# Altium footprint library chip.PcbLib: 89 footprints (part 1 of 6)
Each footprint in its own frame and in the unit in brackets; x right, y up, seen from the top. Pads: shape width x height; smd on the part's side, far side on the other; paste and mask are expansions set on the pad; w line width, h text height; cw(c..) or ccw(c..) is an arc to the next point about the centre after c.
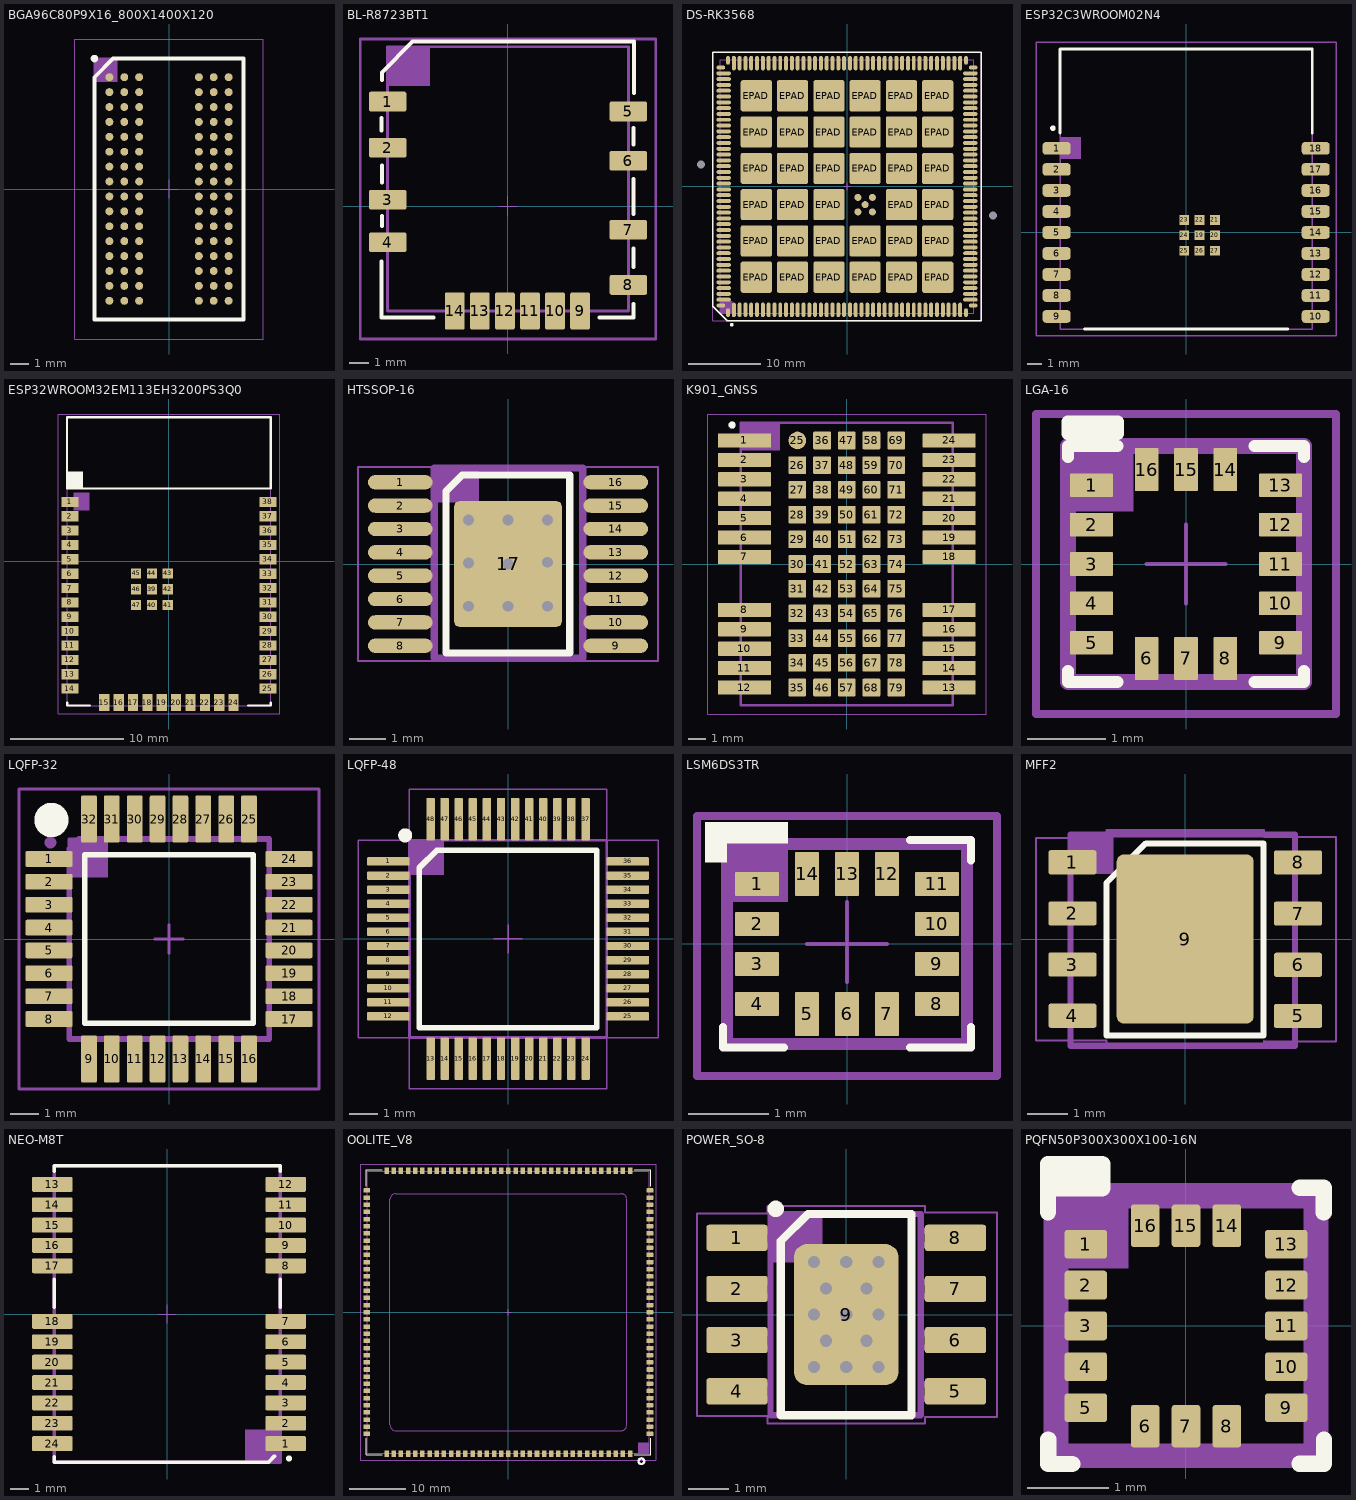
[diagram p0: the footprints below, top view; thin cyan lines are the x and y axes]

## BGA96C80P9X16_800X1400X120 [mm]
pads (96):
  round 0.426 smd: A1(-3.2,6) A2(-2.4,6) A3(-1.6,6) A7(1.6,6) A8(2.4,6) A9(3.2,6) B1(-3.2,5.2) B2(-2.4,5.2) B3(-1.6,5.2) B7(1.6,5.2) B8(2.4,5.2) B9(3.2,5.2) C1(-3.2,4.4) C2(-2.4,4.4) C3(-1.6,4.4) C7(1.6,4.4) C8(2.4,4.4) C9(3.2,4.4) D1(-3.2,3.6) D2(-2.4,3.6) D3(-1.6,3.6) D7(1.6,3.6) D8(2.4,3.6) D9(3.2,3.6) E1(-3.2,2.8) E2(-2.4,2.8) E3(-1.6,2.8) E7(1.6,2.8) E8(2.4,2.8) E9(3.2,2.8) F1(-3.2,2) F2(-2.4,2) F3(-1.6,2) F7(1.6,2) F8(2.4,2) F9(3.2,2) G1(-3.2,1.2) G2(-2.4,1.2) G3(-1.6,1.2) G7(1.6,1.2) G8(2.4,1.2) G9(3.2,1.2) H1(-3.2,0.4) H2(-2.4,0.4) H3(-1.6,0.4) H7(1.6,0.4) H8(2.4,0.4) H9(3.2,0.4) J1(-3.2,-0.4) J2(-2.4,-0.4) J3(-1.6,-0.4) J7(1.6,-0.4) J8(2.4,-0.4) J9(3.2,-0.4) K1(-3.2,-1.2) K2(-2.4,-1.2) K3(-1.6,-1.2) K7(1.6,-1.2) K8(2.4,-1.2) K9(3.2,-1.2) L1(-3.2,-2) L2(-2.4,-2) L3(-1.6,-2) L7(1.6,-2) L8(2.4,-2) L9(3.2,-2) M1(-3.2,-2.8) M2(-2.4,-2.8) M3(-1.6,-2.8) M7(1.6,-2.8) M8(2.4,-2.8) M9(3.2,-2.8) N1(-3.2,-3.6) N2(-2.4,-3.6) N3(-1.6,-3.6) N7(1.6,-3.6) N8(2.4,-3.6) N9(3.2,-3.6) P1(-3.2,-4.4) P2(-2.4,-4.4) P3(-1.6,-4.4) P7(1.6,-4.4) P8(2.4,-4.4) P9(3.2,-4.4) R1(-3.2,-5.2) R2(-2.4,-5.2) R3(-1.6,-5.2) R7(1.6,-5.2) R8(2.4,-5.2) R9(3.2,-5.2) T1(-3.2,-6) T2(-2.4,-6) T3(-1.6,-6) T7(1.6,-6) T8(2.4,-6) T9(3.2,-6)
Top Overlay:
  circle w0.2: c-4,7 r0.1
  lines w0.2: -4,-7 -4,6 -3,7 4,7 4,-7 -4,-7
Top Designator:
  text ".Designator" at -2.849,7.425 h0.6
Top Assembly:
  rectangle: -3.947,5.74 -2.765,6.988
  lines w0.1: -4,-7 4,-7 4,7 -4,7 -4,-7
Top Courtyard:
  lines w0.05: -0.5,0 0.5,0 ; 0,-0.5 0,0.5 ; -5.05,-8.05 -5.05,8.05 5.05,8.05 5.05,-8.05 -5.05,-8.05
3D body "MT41K256M16TW-107_IT_P.stp": height 1.2, standoff 0, extent -4,-7 4,7

## BL-R8723BT1 [mm]
pads (14):
  rrect20% 1.9x1 smd: 1(-6.1,5.31) 2(-6.1,2.973) 3(-6.1,0.333) 4(-6.1,-1.826) 5(6.1,4.811) 6(6.1,2.311) 7(6.1,-1.189) 8(6.1,-3.99)
  rrect20% 1x1.9 smd: 9(3.654,-5.31) 10(2.384,-5.31) 11(1.114,-5.31) 12(-0.156,-5.31) 13(-1.426,-5.31) 14(-2.696,-5.31)
Top Overlay:
  lines w0.2: -6.426,-5.639 -6.426,-2.794 ; -6.426,3.835 -6.426,4.47 ; -6.401,-5.639 -3.785,-5.639 ; -6.401,-0.991 -6.401,-0.483 ; -6.401,1.194 -6.401,2.057 ; -6.401,6.401 -6.401,6.79 -4.834,8.357 6.401,8.357 6.401,5.74 ; 4.648,-5.639 6.35,-5.639 ; 6.375,-5.639 6.375,-4.953 ; 6.375,-3.073 6.375,-2.134 ; 6.375,-0.381 6.375,1.397 ; 6.375,3.124 6.375,3.962
Top Designator:
  text ".Designator" at -3.685,9.122 h0.6
Top Assembly:
  rectangle: -6.1,6.09 -3.955,8.09
  lines w0.15: -6.1,-5.31 -6.1,8.09 6.1,8.09 6.1,-5.31 -6.1,-5.31
Top Courtyard:
  lines w0.05: -0.5,0 0,0 ; 0,-0.5 0,0 ; 0,0.5 0,0 ; 0.5,0 0,0
  lines w0.15: -7.493,-6.731 7.493,-6.731 7.493,8.484 -7.493,8.484 -7.493,-6.731
3D body "User Library-BL-R8723BT1 module.STEP": height 1.1, standoff 0, extent -5.867,-5.252 6.133,8.148

## DS-RK3568 [mm]
pads (210):
  oval 0.55x2 smd: 1(-15.6,-17) 2(-14.8,-17) 3(-14,-17) 4(-13.2,-17) 5(-12.4,-17) 6(-11.6,-17) 7(-10.8,-17) 8(-10,-17) 9(-9.2,-17) 10(-8.4,-17) 11(-7.6,-17) 12(-6.8,-17) 13(-6,-17) 14(-5.2,-17) 15(-4.4,-17) 16(-3.6,-17) 17(-2.8,-17) 18(-2,-17) 19(-1.2,-17) 20(-0.4,-17) 21(0.4,-17) 22(1.2,-17) 23(2,-17) 24(2.8,-17) 25(3.6,-17) 26(4.4,-17) 27(5.2,-17) 28(6,-17) 29(6.8,-17) 30(7.6,-17) 31(8.4,-17) 32(9.2,-17) 33(10,-17) 34(10.8,-17) 35(11.6,-17) 36(12.4,-17) 37(13.2,-17) 38(14,-17) 39(14.8,-17) 40(15.6,-17) 81(15.6,17) 82(14.8,17) 83(14,17) 84(13.2,17) 85(12.4,17) 86(11.6,17) 87(10.8,17) 88(10,17) 89(9.2,17) 90(8.4,17) 91(7.6,17) 92(6.8,17) 93(6,17) 94(5.2,17) 95(4.4,17) 96(3.6,17) 97(2.8,17) 98(2,17) 99(1.2,17) 100(0.4,17) 101(-0.4,17) 102(-1.2,17) 103(-2,17) 104(-2.8,17) 105(-3.6,17) 106(-4.4,17) 107(-5.2,17) 108(-6,17) 109(-6.8,17) 110(-7.6,17) 111(-8.4,17) 112(-9.2,17) 113(-10,17) 114(-10.8,17) 115(-11.6,17) 116(-12.4,17) 117(-13.2,17) 118(-14,17) 119(-14.8,17) 120(-15.6,17)
  oval 0.55x1.2 smd: 1A(-16.4,-17.4) 40A(16.4,-17.4) 81A(16.4,17.4) 120A(-16.4,17.4)
  oval 2x0.55 smd: 41(17,-15.6) 42(17,-14.8) 43(17,-14) 44(17,-13.2) 45(17,-12.4) 46(17,-11.6) 47(17,-10.8) 48(17,-10) 49(17,-9.2) 50(17,-8.4) 51(17,-7.6) 52(17,-6.8) 53(17,-6) 54(17,-5.2) 55(17,-4.4) 56(17,-3.6) 57(17,-2.8) 58(17,-2) 59(17,-1.2) 60(17,-0.4) 61(17,0.4) 62(17,1.2) 63(17,2) 64(17,2.8) 65(17,3.6) 66(17,4.4) 67(17,5.2) 68(17,6) 69(17,6.8) 70(17,7.6) 71(17,8.4) 72(17,9.2) 73(17,10) 74(17,10.8) 75(17,11.6) 76(17,12.4) 77(17,13.2) 78(17,14) 79(17,14.8) 80(17,15.6) 121(-17,15.6) 122(-17,14.8) 123(-17,14) 124(-17,13.2) 125(-17,12.4) 126(-17,11.6) 127(-17,10.8) 128(-17,10) 129(-17,9.2) 130(-17,8.4) 131(-17,7.6) 132(-17,6.8) 133(-17,6) 134(-17,5.2) 135(-17,4.4) 136(-17,3.6) 137(-17,2.8) 138(-17,2) 139(-17,1.2) 140(-17,0.4) 141(-17,-0.4) 142(-17,-1.2) 143(-17,-2) 144(-17,-2.8) 145(-17,-3.6) 146(-17,-4.4) 147(-17,-5.2) 148(-17,-6) 149(-17,-6.8) 150(-17,-7.6) 151(-17,-8.4) 152(-17,-9.2) 153(-17,-10) 154(-17,-10.8) 155(-17,-11.6) 156(-17,-12.4) 157(-17,-13.2) 158(-17,-14) 159(-17,-14.8) 160(-17,-15.6)
  oval 1.2x0.55 smd: 41A(17.4,-16.4) 80A(17.4,16.4) 121A(-17.4,16.4) 160A(-17.4,-16.4)
  round 0.97 smd: A1(1.5,-3.5) A3(3.5,-3.5) B2(2.5,-2.5) C1(1.5,-1.5) C3(3.5,-1.5)
  rrect12% 4.3x4.3 smd paste-2539.97: EPAD(-12.5,-12.5) EPAD(-12.5,-7.5) EPAD(-12.5,-2.5) EPAD(-12.5,2.5) EPAD(-12.5,7.5) EPAD(-12.5,12.5) EPAD(-7.5,-12.5) EPAD(-7.5,-7.5) EPAD(-7.5,-2.5) EPAD(-7.5,2.5) EPAD(-7.5,7.5) EPAD(-7.5,12.5) EPAD(-2.5,-12.5) EPAD(-2.5,-7.5) EPAD(-2.5,-2.5) EPAD(-2.5,2.5) EPAD(-2.5,7.5) EPAD(-2.5,12.5) EPAD(2.5,-12.5) EPAD(2.5,-7.5) EPAD(2.5,2.5) EPAD(2.5,7.5) EPAD(2.5,12.5) EPAD(7.5,-12.5) EPAD(7.5,-7.5) EPAD(7.5,-2.5) EPAD(7.5,2.5) EPAD(7.5,7.5) EPAD(7.5,12.5) EPAD(12.5,-12.5) EPAD(12.5,-7.5) EPAD(12.5,-2.5) EPAD(12.5,2.5) EPAD(12.5,7.5) EPAD(12.5,12.5)
  round 0 hole 1.1 unplated: H1(-20.125,3) H2(20.125,-4)
Top Overlay:
  circle w0.25: c-15.886,-19.065 r0.125
  lines w0.2: -18.5,17.7 -18.5,17.7 ; -18.5,17.7 -18.5,-16.5 -16.5,-18.5 18.5,-18.5 18.5,18.5 -18.5,18.5 -18.5,17.7
Top Paste:
  drawing of 175 lines, arcs and shapes, not listed
Top Designator:
  text ".Designator" at -16.999,19.3 h0.6
Top Assembly:
  rectangle: -17.457,-17.465 -15.75,-15.75
  lines w0.15: -17.5,-17.5 -17.5,17.5 17.5,17.5 17.5,-17.5 -17.5,-17.5
Top Courtyard:
  lines w0.05: -0.5,0 0.5,0 ; 0,-0.5 0,0.5 ; -18.5,17.7 -18.5,17.7 ; -18.5,17.7 -18.5,18.5 18.5,18.5 18.5,-18.5 -18.5,-18.5 -18.5,17.7
3D body "mg-rk3568-3535_ver1_STEP.stp": height 3.42, standoff 0.01, extent -17.5,-17.5 17.5,17.5

## ESP32C3WROOM02N4 [mm]
pads (27):
  rrect50% 2x0.9 smd: 1(-9.25,6) 2(-9.25,4.5) 3(-9.25,3) 4(-9.25,1.5) 5(-9.25,0) 6(-9.25,-1.5) 7(-9.25,-3) 8(-9.25,-4.5) 9(-9.25,-6) 10(9.25,-6) 11(9.25,-4.5) 12(9.25,-3) 13(9.25,-1.5) 14(9.25,0) 15(9.25,1.5) 16(9.25,3) 17(9.25,4.5) 18(9.25,6)
  rect 0.7x0.7 smd: 19(0.96,-0.2) 20(2.06,-0.2) 21(2.06,0.9) 22(0.96,0.9) 23(-0.14,0.9) 24(-0.14,-0.2) 25(-0.14,-1.3) 26(0.96,-1.3) 27(2.06,-1.3)
Top Overlay:
  lines w0.2: -9.615,7.45 ccw(c-9.515,7.45) -9.415,7.45 ; -9.615,7.45 cw(c-9.515,7.45) -9.415,7.45 ; -9.615,7.45 ccw(c-9.515,7.45) -9.415,7.45 ; -9,13.1 9,13.1 ; -9,13.1 9,13.1 ; -9,13.1 -9,7.1 -9,13.1 ; 9,13.1 9,7.1 9,13.1 ; -7.25,-6.9 7.25,-6.9 -7.25,-6.9
Top Assembly:
  rectangle: -8.952,5.25 -7.525,6.825
  lines w0.1: -9,-6.9 9,-6.9 9,13.1 -9,13.1 -9,-6.9
Top Courtyard:
  lines w0.1: -10.724,-7.393 -10.724,13.6 10.703,13.6 10.703,-7.393 -10.724,-7.393
3D body "ESP32-C3-WROOM-02-N4.stp": height 3.2, standoff 0, extent -9,-6.9 9,13.1

## ESP32WROOM32EM113EH3200PS3Q0 [mm] "ESP32-WROOM-32E"
height 3.25
pads (47):
  rect 1.5x0.9 smd: 1(-8.75,5.26) 2(-8.75,3.99) 3(-8.75,2.72) 4(-8.75,1.45) 5(-8.75,0.18) 6(-8.75,-1.09) 7(-8.75,-2.36) 8(-8.75,-3.63) 9(-8.75,-4.9) 10(-8.75,-6.17) 11(-8.75,-7.44) 12(-8.75,-8.71) 13(-8.75,-9.98) 14(-8.75,-11.25) 25(8.75,-11.25) 26(8.75,-9.98) 27(8.75,-8.71) 28(8.75,-7.44) 29(8.75,-6.17) 30(8.75,-4.9) 31(8.75,-3.63) 32(8.75,-2.36) 33(8.75,-1.09) 34(8.75,0.18) 35(8.75,1.45) 36(8.75,2.72) 37(8.75,3.99) 38(8.75,5.26)
  rect 0.9x1.5 smd: 15(-5.71,-12.5) 16(-4.44,-12.5) 17(-3.17,-12.5) 18(-1.9,-12.5) 19(-0.63,-12.5) 20(0.64,-12.5) 21(1.91,-12.5) 22(3.18,-12.5) 23(4.45,-12.5) 24(5.72,-12.5)
  rect 0.9x0.9 smd: 39(-1.5,-2.46) 40(-1.5,-3.86) 41(-0.1,-3.86) 42(-0.1,-2.46) 43(-0.1,-1.06) 44(-1.5,-1.06) 45(-2.9,-1.06) 46(-2.9,-2.46) 47(-2.9,-3.86)
Top Overlay:
  rectangle: -9.007,6.452 -7.605,7.928
  lines w0.2: -9.004,12.732 -9.004,6.452 9,6.452 9,12.75 -9,12.75 ; -9,-12.5 -9,-12.75 -7,-12.75 ; 7,-12.75 9,-12.75 9,-12.5
Top Assembly:
  rectangle: -8.452,4.51 -7.025,6.085
Top Courtyard:
  lines w0.1: -9,-12.75 9,-12.75 9,12.75 -9,12.75 -9,-12.75
Mechanical 20:
  lines w0.1: -9.781,-13.498 9.8,-13.498 9.8,13.032 -9.781,13.032 -9.781,-13.498
3D body "ESP32-WROOM-32E 3D Model.STEP": height 3.12, standoff 0.02, extent -9.005,-12.753 8.995,12.747

## HTSSOP-16 [mm]
pads (26):
  oval 1.8x0.4 smd paste-25.4: 1(-3,2.275) 2(-3,1.625) 3(-3,0.975) 4(-3,0.325) 5(-3,-0.325) 6(-3,-0.975) 7(-3,-1.625) 8(-3,-2.275) 9(3,-2.275) 10(3,-1.625) 11(3,-0.975) 12(3,-0.325) 13(3,0.325) 14(3,0.975) 15(3,1.625) 16(3,2.275)
  rrect10% 3x3.5 smd paste-25.4: 17(0,0)
  round 0.7 hole 0.3 paste-2539.97: unused1(0,0) unused2(1.1,0.05) unused3(-1.1,0.025) unused4(0,1.225) unused5(0,-1.175) unused6(1.1,-1.175) unused7(-1.1,-1.175) unused8(-1.1,1.225) unused9(1.1,1.225)
Top Overlay:
  lines w0.2: -1.725,-2.475 1.719,-2.475 1.719,2.475 -1.275,2.475 -1.725,2.025 -1.725,-2.475
Top Paste:
  drawing of 16 lines, arcs and shapes, not listed
Top Designator:
  text ".Designator" at -3.149,3.075 h0.6
Top Assembly:
  rectangle: -2.053,1.715 -0.805,2.67
  lines w0.2: -2.053,-2.619 -2.053,2.67 2.082,2.67 2.082,-2.619 -2.053,-2.619
  lines w0.3: -3.064,-2.275 -2.138,-2.275 ; -3.064,-1.625 -2.138,-1.625 ; -3.064,-0.975 -2.138,-0.975 ; -3.064,-0.325 -2.138,-0.325 ; -3.064,0.325 -2.138,0.325 ; -3.064,0.975 -2.138,0.975 ; -3.064,1.625 -2.138,1.625 ; -3.064,2.275 -2.138,2.275 ; 2.138,-2.275 3.064,-2.275 ; 2.138,-1.625 3.064,-1.625 ; 2.138,-0.975 3.064,-0.975 ; 2.138,-0.325 3.064,-0.325 ; 2.138,0.325 3.064,0.325 ; 2.138,0.975 3.064,0.975 ; 2.138,1.625 3.064,1.625 ; 2.138,2.275 3.064,2.275
Top Courtyard:
  lines w0.05: -0.5,0 0.5,0 ; 0,-0.5 0,0.5 ; -4.175,-2.7 -4.175,2.7 -1.952,2.7 1.952,2.7 4.175,2.7 4.175,-2.703 1.952,-2.7 -1.952,-2.7 -4.175,-2.7
3D body "HTSSOP-16-EP.STEP": height -0.45, standoff -1.75, extent -3.207,-2.5 3.206,2.5

## K901_GNSS [mm]
height 2.7
pads (79):
  rrect10% 3x0.8 smd: 1(-5.8,7) 2(-5.8,5.9) 3(-5.8,4.8) 4(-5.8,3.7) 5(-5.8,2.6) 6(-5.8,1.5) 7(-5.8,0.4) 8(-5.8,-2.6) 9(-5.8,-3.7) 10(-5.8,-4.8) 11(-5.8,-5.9) 12(-5.8,-7) 13(5.8,-7) 14(5.8,-5.9) 15(5.8,-4.8) 16(5.8,-3.7) 17(5.8,-2.6) 18(5.8,0.4) 19(5.8,1.5) 20(5.8,2.6) 21(5.8,3.7) 22(5.8,4.8) 23(5.8,5.9) 24(5.8,7)
  round 1 smd: 25(-2.8,7)
  rrect10% 1x1 smd: 26(-2.8,5.6) 27(-2.8,4.2) 28(-2.8,2.8) 29(-2.8,1.4) 30(-2.8,0) 31(-2.8,-1.4) 32(-2.8,-2.8) 33(-2.8,-4.2) 34(-2.8,-5.6) 35(-2.8,-7) 36(-1.4,7) 37(-1.4,5.6) 38(-1.4,4.2) 39(-1.4,2.8) 40(-1.4,1.4) 41(-1.4,0) 42(-1.4,-1.4) 43(-1.4,-2.8) 44(-1.4,-4.2) 45(-1.4,-5.6) 46(-1.4,-7) 47(0,7) 48(0,5.6) 49(0,4.2) 50(0,2.8) 51(0,1.4) 52(0,0) 53(0,-1.4) 54(0,-2.8) 55(0,-4.2) 56(0,-5.6) 57(0,-7) 58(1.4,7) 59(1.4,5.6) 60(1.4,4.2) 61(1.4,2.8) 62(1.4,1.4) 63(1.4,0) 64(1.4,-1.4) 65(1.4,-2.8) 66(1.4,-4.2) 67(1.4,-5.6) 68(1.4,-7) 69(2.8,7) 70(2.8,5.6) 71(2.8,4.2) 72(2.8,2.8) 73(2.8,1.4) 74(2.8,0) 75(2.8,-1.4) 76(2.8,-2.8) 77(2.8,-4.2) 78(2.8,-5.6) 79(2.8,-7)
Top Overlay:
  circle w0.2: c-6.5,7.875 r0.1
Top Designator:
  text ".Designator" at -3.799,9.1 h0.6
Top Assembly:
  circle w0.2: c-6.5,7.875 r0.1
  rectangle: -6,6.44 -3.78,8
  lines w0.15: -6,-8 6,-8 6,8 -6,8 -6,-8
Top Courtyard:
  lines w0.05: -0.5,-0.025 0.5,-0.025 ; 0,-0.525 0,0.475 ; -7.875,-8.5 7.9,-8.5 7.9,8.5 -7.875,8.5 -7.875,-8.5
3D body "step_temp.STEP": height 2.5, standoff 0, extent -6.1,-8 6.1,8

## LGA-16 [mm]
pads (16):
  rrect10% 0.55x0.3 smd: 1(-1.2,1) 2(-1.2,0.5) 3(-1.2,0) 4(-1.2,-0.5) 5(-1.2,-1) 9(1.2,-1) 10(1.2,-0.5) 11(1.2,0) 12(1.2,0.5) 13(1.2,1)
  rrect10% 0.3x0.55 smd: 6(-0.5,-1.2) 7(0,-1.2) 8(0.5,-1.2) 14(0.5,1.2) 15(0,1.2) 16(-0.5,1.2)
Top Overlay:
  lines w0.15: -1.5,-1.355 -1.5,-1.5 -0.868,-1.5 ; -1.5,1.355 -1.5,1.5 -0.868,1.5 ; 0.868,-1.5 1.5,-1.5 1.5,-1.355 ; 0.868,1.5 1.5,1.5 1.5,1.355
  lines w0.16: -1.5,1.652 -0.868,1.652 ; -1.5,1.66 -1.5,1.805 -0.868,1.805 ; -0.865,1.66 -0.865,1.805
Top Designator:
  text ".Designator" at -2.897,2.238 h0.6
Top Assembly:
  rectangle: -1.5,0.665 -0.665,1.427
  lines w0.2: -1.5,-1.5 1.5,-1.5 1.5,1.5 -1.5,1.5 -1.5,-1.5
Top Courtyard:
  lines w0.05: -0.5,0 0,0 ; 0,-0.5 0,0 ; 0,0.5 0,0 ; 0.5,0 0,0
  lines w0.1: -1.905,-1.905 1.905,-1.905 1.905,1.905 -1.905,1.905 -1.905,-1.905
3D body "LIS3DH.stp": height 1, standoff 0, extent -1.5,-1.5 1.5,1.5

## LQFP-32 [mm] "Thin QFP, 32-Leads, Body 7x7mm, Pitch 0.8mm, IPC Medium Density"
height 1.6
pads (32):
  rrect20% 1.65x0.55 smd: 1(-4.2,2.8) 2(-4.2,2) 3(-4.2,1.2) 4(-4.2,0.4) 5(-4.2,-0.4) 6(-4.2,-1.2) 7(-4.2,-2) 8(-4.2,-2.8) 17(4.2,-2.8) 18(4.2,-2) 19(4.2,-1.2) 20(4.2,-0.4) 21(4.2,0.4) 22(4.2,1.2) 23(4.2,2) 24(4.2,2.8)
  rrect20% 0.55x1.65 smd: 9(-2.8,-4.2) 10(-2,-4.2) 11(-1.2,-4.2) 12(-0.4,-4.2) 13(0.4,-4.2) 14(1.2,-4.2) 15(2,-4.2) 16(2.8,-4.2) 25(2.8,4.2) 26(2,4.2) 27(1.2,4.2) 28(0.4,4.2) 29(-0.4,4.2) 30(-1.2,4.2) 31(-2,4.2) 32(-2.8,4.2)
Top Overlay:
  circle w0.6: c-4.115,4.166 r0.3
  lines w0.2: -2.95,-2.95 -2.95,2.95 2.95,2.95 2.95,-2.95 -2.95,-2.95
Sheet:
  lines w0.05: -5.25,-5.25 5.25,-5.25 5.25,5.25 -5.25,5.25 -5.25,-5.25
  text ".Designator" at -2.25,-0.25 h1.5
Bottom Dimensions:
  circle w0.2: c-4.15,3.375 r0.106
  lines w0.2: -4.5,-2.95 -4.5,-2.65 -3.5,-2.65 -3.5,-2.95 -4.5,-2.95 ; -4.5,-2.15 -4.5,-1.85 -3.5,-1.85 -3.5,-2.15 -4.5,-2.15 ; -4.5,-1.35 -4.5,-1.05 -3.5,-1.05 -3.5,-1.35 -4.5,-1.35 ; -4.5,-0.55 -4.5,-0.25 -3.5,-0.25 -3.5,-0.55 -4.5,-0.55 ; -4.5,0.256 -4.5,0.556 -3.5,0.556 -3.5,0.256 -4.5,0.256 ; -4.5,1.05 -4.5,1.35 -3.5,1.35 -3.5,1.05 -4.5,1.05 ; -4.5,1.85 -4.5,2.15 -3.5,2.15 -3.5,1.85 -4.5,1.85 ; -4.5,2.65 -4.5,2.95 -3.5,2.95 -3.5,2.65 -4.5,2.65 ; -3.488,-3.497 -3.488,3.162 -3.147,3.503 3.512,3.503 3.512,-3.497 -3.488,-3.497 ; -2.944,3.5 -2.644,3.5 -2.644,4.5 -2.944,4.5 -2.944,3.5 ; -2.942,-4.498 -2.642,-4.498 -2.642,-3.498 -2.942,-3.498 -2.942,-4.498 ; -2.15,3.5 -1.85,3.5 -1.85,4.5 -2.15,4.5 -2.15,3.5 ; -2.142,-4.498 -1.842,-4.498 -1.842,-3.498 -2.142,-3.498 -2.142,-4.498 ; -1.35,3.5 -1.05,3.5 -1.05,4.5 -1.35,4.5 -1.35,3.5 ; -1.342,-4.498 -1.042,-4.498 -1.042,-3.498 -1.342,-3.498 -1.342,-4.498 ; -0.548,-4.498 -0.248,-4.498 -0.248,-3.498 -0.548,-3.498 -0.548,-4.498 ; -0.546,3.501 -0.246,3.501 -0.246,4.501 -0.546,4.501 -0.546,3.501 ; 0.243,3.5 0.543,3.5 0.543,4.5 0.243,4.5 0.243,3.5 ; 0.258,-4.498 0.558,-4.498 0.558,-3.498 0.258,-3.498 0.258,-4.498 ; 1.05,3.5 1.35,3.5 1.35,4.5 1.05,4.5 1.05,3.5 ; 1.058,-4.498 1.358,-4.498 1.358,-3.498 1.058,-3.498 1.058,-4.498 ; 1.854,3.5 2.154,3.5 2.154,4.5 1.854,4.5 1.854,3.5 ; 1.858,-4.498 2.158,-4.498 2.158,-3.498 1.858,-3.498 1.858,-4.498 ; 2.65,-4.5 2.95,-4.5 2.95,-3.5 2.65,-3.5 2.65,-4.5 ; 2.668,3.503 2.968,3.503 2.968,4.503 2.668,4.503 2.668,3.503 ; 3.517,-2.951 3.517,-2.651 4.517,-2.651 4.517,-2.951 3.517,-2.951 ; 3.517,-2.151 3.517,-1.851 4.517,-1.851 4.517,-2.151 3.517,-2.151 ; 3.517,-1.351 3.517,-1.051 4.517,-1.051 4.517,-1.351 3.517,-1.351 ; 3.517,-0.557 3.517,-0.257 4.517,-0.257 4.517,-0.557 3.517,-0.557 ; 3.517,0.249 3.517,0.549 4.517,0.549 4.517,0.249 3.517,0.249 ; 3.517,1.049 3.517,1.349 4.517,1.349 4.517,1.049 3.517,1.049 ; 3.517,1.849 3.517,2.149 4.517,2.149 4.517,1.849 3.517,1.849 ; 3.525,2.65 3.525,2.95 4.525,2.95 4.525,2.65 3.525,2.65
  text ".Designator" at -2.175,5.075 h1
Top Assembly:
  rectangle: -3.538,2.149 -2.138,3.529
  lines w0.1: -3.5,-3.5 -3.5,3.5 3.5,3.5 3.5,-3.5 -3.5,-3.5
Top Courtyard:
  lines w0.1: -0.5,0 0.5,0 ; 0,-0.5 0,0.5 ; -5.25,-5.25 -5.25,5.25 5.25,5.25 5.25,-5.25 -5.25,-5.25
3D body "LQFP32_FPT-32P-M21.stp": height 1.5, standoff 0, extent -4.5,-4.5 4.5,4.5

## LQFP-48 [mm] "QFP50P900X900X160-48N"
height 1.6
pads (48):
  rrect20% 1.5x0.3 smd: 1(-4.25,2.75) 2(-4.25,2.25) 3(-4.25,1.75) 4(-4.25,1.25) 5(-4.25,0.75) 6(-4.25,0.25) 7(-4.25,-0.25) 8(-4.25,-0.75) 9(-4.25,-1.25) 10(-4.25,-1.75) 11(-4.25,-2.25) 12(-4.25,-2.75) 25(4.25,-2.75) 26(4.25,-2.25) 27(4.25,-1.75) 28(4.25,-1.25) 29(4.25,-0.75) 30(4.25,-0.25) 31(4.25,0.25) 32(4.25,0.75) 33(4.25,1.25) 34(4.25,1.75) 35(4.25,2.25) 36(4.25,2.75)
  rrect20% 0.3x1.5 smd: 13(-2.75,-4.25) 14(-2.25,-4.25) 15(-1.75,-4.25) 16(-1.25,-4.25) 17(-0.75,-4.25) 18(-0.25,-4.25) 19(0.25,-4.25) 20(0.75,-4.25) 21(1.25,-4.25) 22(1.75,-4.25) 23(2.25,-4.25) 24(2.75,-4.25) 37(2.75,4.25) 38(2.25,4.25) 39(1.75,4.25) 40(1.25,4.25) 41(0.75,4.25) 42(0.25,4.25) 43(-0.25,4.25) 44(-0.75,4.25) 45(-1.25,4.25) 46(-1.75,4.25) 47(-2.25,4.25) 48(-2.75,4.25)
Top Overlay:
  circle w0.25: c-3.65,3.675 r0.125
  lines w0.2: -3.15,-3.15 3.15,-3.15 3.15,3.15 -2.525,3.15 -3.15,2.525 -3.15,-3.15
Top Designator:
  text ".Designator" at -3.199,5.5 h0.6
Top Assembly:
  rectangle: -3.5,2.275 -2.275,3.5
  lines w0.1: -3.5,-3.5 3.5,-3.5 3.5,3.5 -3.5,3.5 -3.5,-3.5
Top Courtyard:
  lines w0.05: -0.5,0 0.5,0 ; 0,-0.5 0,0.5 ; -5.325,-3.5 -3.5,-3.5 -3.5,-5.325 3.5,-5.325 3.5,-3.5 5.322,-3.5 5.322,3.5 3.5,3.5 3.5,5.321 -3.5,5.321 -3.5,3.5 -5.325,3.5 -5.325,-3.5
3D body "IP101GA.stp": height 1.6, standoff 0, extent -4.5,-4.5 4.5,4.5

## LSM6DS3TR [mm]
pads (14):
  rrect10% 0.55x0.3 smd: 1(-1.125,0.75) 2(-1.125,0.25) 3(-1.125,-0.25) 4(-1.125,-0.75) 8(1.125,-0.75) 9(1.125,-0.25) 10(1.125,0.25) 11(1.125,0.75)
  rrect10% 0.3x0.55 smd: 5(-0.5,-0.875) 6(0,-0.875) 7(0.5,-0.875) 12(0.5,0.875) 13(0,0.875) 14(-0.5,0.875)
Top Overlay:
  rectangle: -1.778,1.016 -1.501,1.524
  region: -0.739,1.256 -0.739,1.524 -1.501,1.524 -1.501,1.256
  lines w0.1: -1.549,-1.041 -1.549,-1.295 -0.787,-1.295 ; 0.787,-1.295 1.549,-1.295 1.549,-1.041 ; 0.787,1.295 1.549,1.295 1.549,1.041
Top Designator:
  text ".Designator" at -2.849,2.075 h0.6
Top Assembly:
  rectangle: -1.5,0.525 -0.735,1.25
  lines w0.15: -1.5,-1.25 -1.5,1.25 1.5,1.25 1.5,-1.25 -1.5,-1.25
Top Courtyard:
  lines w0.05: -0.5,0 0.5,0 ; 0,-0.475 0,0.525
  lines w0.1: -1.875,-1.65 1.875,-1.65 1.875,1.6 -1.875,1.6 -1.875,-1.65
3D body "LSM6DS3TR.stp": height 0.86, standoff 0, extent -1.5,-1.25 1.5,1.25

## MFF2 [mm]
pads (9):
  rrect20% 1.2x0.6 smd: 1(-2.8,1.905) 2(-2.8,0.635) 3(-2.8,-0.635) 4(-2.8,-1.905) 5(2.8,-1.91) 6(2.8,-0.64) 7(2.8,0.63) 8(2.8,1.9)
  rrect10% 3.4x4.2 smd: 9(0,0)
Top Overlay:
  lines w0.15: -1.959,-2.4 1.944,-2.4 1.944,2.375 -0.975,2.375 -1.959,1.391 -1.959,-2.4
Top Designator:
  text ".Designator" at -3.149,3.075 h0.6
Top Assembly:
  rectangle: -2.85,1.61 -1.785,2.6
  lines w0.15: -2.85,-2.105 -3.057,-2.105 -3.057,-1.705 -2.85,-1.705 ; -2.85,-0.835 -3.057,-0.835 -3.057,-0.435 -2.85,-0.435 ; -2.85,0.435 -3.057,0.435 -3.057,0.835 -2.85,0.835 ; -2.85,1.705 -3.057,1.705 -3.057,2.105 -2.85,2.105 ; 2.75,-2.11 2.957,-2.11 2.957,-1.71 2.75,-1.71 ; 2.75,-0.84 2.957,-0.84 2.957,-0.44 2.75,-0.44 ; 2.75,0.43 2.957,0.43 2.957,0.83 2.75,0.83 ; 2.75,1.7 2.957,1.7 2.957,2.1 2.75,2.1 ; -2.85,2.105 -2.85,-2.65 -1.456,-2.65 1.331,-2.65 2.725,-2.65 2.725,2.6 -2.85,2.6 -2.85,2.105
Top Courtyard:
  lines w0.05: -0.5,0 0.5,0 ; 0,-0.5 0,0.5 ; -3.705,-2.522 -3.705,2.507 -1.952,2.505 -1.952,2.7 1.952,2.7 1.952,2.529 3.743,2.532 3.743,-2.541 1.952,-2.539 1.952,-2.7 -1.952,-2.7 -1.952,-2.519 -3.705,-2.522
3D body "User Library-MFF2_5x6x1mm.STEP": height 0.95, standoff 0, extent -3,-2.525 3.1,2.475

## NEO-M8T [mm]
pads (24):
  rrect20% 2.2x0.8 smd: 1(6.4,-7) 2(6.4,-5.9) 3(6.4,-4.8) 4(6.4,-3.7) 5(6.4,-2.6) 6(6.4,-1.5) 7(6.4,-0.4) 8(6.4,2.6) 9(6.4,3.7) 10(6.4,4.8) 11(6.4,5.9) 12(6.4,7) 13(-6.2,7) 14(-6.2,5.9) 15(-6.2,4.8) 16(-6.2,3.7) 17(-6.2,2.6) 18(-6.2,-0.4) 19(-6.2,-1.5) 20(-6.2,-2.6) 21(-6.2,-3.7) 22(-6.2,-4.8) 23(-6.2,-5.9) 24(-6.2,-7)
Top Overlay:
  circle w0.2: c6.575,-7.8 r0.062
  lines w0.2: -6.1,-7.725 -6.1,-8 5.475,-8 ; -6.1,0.375 -6.1,1.875 ; -6.1,7.725 -6.1,8 6.1,8 6.1,7.725 ; 5.487,-7.988 5.8,-7.675 ; 6.1,0.375 6.1,1.875
Top Designator:
  text ".Designator" at 6.774,-8.7 h0.6
Top Assembly:
  rectangle: 4.2,-8 6.1,-6.23
  lines w0.2: -6.1,-8 6.1,-8 6.1,8 -6.1,8 -6.1,-8
Top Courtyard:
  lines w0.05: -0.5,0 0.5,0 ; 0,-0.5 0,0.5
3D body "NEO-M8N-0.stp": height 2.6, standoff 0, extent -6.1,-8 6.1,8

## OOLITE_V8 [mm]
pads (140):
  rrect20% 0.8x1.2 smd paste-25.4: 1(21.59,-25.1) 2(20.32,-25.1) 3(19.05,-25.1) 4(17.78,-25.1) 5(16.51,-25.1) 6(15.24,-25.1) 7(13.97,-25.1) 8(12.7,-25.1) 9(11.43,-25.1) 10(10.16,-25.1) 11(8.89,-25.1) 12(7.62,-25.1) 13(6.35,-25.1) 14(5.08,-25.1) 15(3.81,-25.1) 16(2.54,-25.1) 17(1.27,-25.1) 18(0,-25.1) 19(-1.27,-25.1) 20(-2.54,-25.1) 21(-3.81,-25.1) 22(-5.08,-25.1) 23(-6.35,-25.1) 24(-7.62,-25.1) 25(-8.89,-25.1) 26(-10.16,-25.1) 27(-11.43,-25.1) 28(-12.7,-25.1) 29(-13.97,-25.1) 30(-15.24,-25.1) 31(-16.51,-25.1) 32(-17.78,-25.1) 33(-19.05,-25.1) 34(-20.32,-25.1) 35(-21.59,-25.1) 71(-21.59,25.1) 72(-20.32,25.1) 73(-19.05,25.1) 74(-17.78,25.1) 75(-16.51,25.1) 76(-15.24,25.1) 77(-13.97,25.1) 78(-12.7,25.1) 79(-11.43,25.1) 80(-10.16,25.1) 81(-8.89,25.1) 82(-7.62,25.1) 83(-6.35,25.1) 84(-5.08,25.1) 85(-3.81,25.1) 86(-2.54,25.1) 87(-1.27,25.1) 88(0,25.1) 89(1.27,25.1) 90(2.54,25.1) 91(3.81,25.1) 92(5.08,25.1) 93(6.35,25.1) 94(7.62,25.1) 95(8.89,25.1) 96(10.16,25.1) 97(11.43,25.1) 98(12.7,25.1) 99(13.97,25.1) 100(15.24,25.1) 101(16.51,25.1) 102(17.78,25.1) 103(19.05,25.1) 104(20.32,25.1) 105(21.59,25.1)
  rrect20% 1.2x0.8 smd paste-25.4: 36(-25.1,-21.59) 37(-25.1,-20.32) 38(-25.1,-19.05) 39(-25.1,-17.78) 40(-25.1,-16.51) 41(-25.1,-15.24) 42(-25.1,-13.97) 43(-25.1,-12.7) 44(-25.1,-11.43) 45(-25.1,-10.16) 46(-25.1,-8.89) 47(-25.1,-7.62) 48(-25.1,-6.35) 49(-25.1,-5.08) 50(-25.1,-3.81) 51(-25.1,-2.54) 52(-25.1,-1.27) 53(-25.1,0) 54(-25.1,1.27) 55(-25.1,2.54) 56(-25.1,3.81) 57(-25.1,5.08) 58(-25.1,6.35) 59(-25.1,7.62) 60(-25.1,8.89) 61(-25.1,10.16) 62(-25.1,11.43) 63(-25.1,12.7) 64(-25.1,13.97) 65(-25.1,15.24) 66(-25.1,16.51) 67(-25.1,17.78) 68(-25.1,19.05) 69(-25.1,20.32) 70(-25.1,21.59) 106(25.1,21.59) 107(25.1,20.32) 108(25.1,19.05) 109(25.1,17.78) 110(25.1,16.51) 111(25.1,15.24) 112(25.1,13.97) 113(25.1,12.7) 114(25.1,11.43) 115(25.1,10.16) 116(25.1,8.89) 117(25.1,7.62) 118(25.1,6.35) 119(25.1,5.08) 120(25.1,3.81) 121(25.1,2.54) 122(25.1,1.27) 123(25.1,0) 124(25.1,-1.27) 125(25.1,-2.54) 126(25.1,-3.81) 127(25.1,-5.08) 128(25.1,-6.35) 129(25.1,-7.62) 130(25.1,-8.89) 131(25.1,-10.16) 132(25.1,-11.43) 133(25.1,-12.7) 134(25.1,-13.97) 135(25.1,-15.24) 136(25.1,-16.51) 137(25.1,-17.78) 138(25.1,-19.05) 139(25.1,-20.32) 140(25.1,-21.59)
Top Overlay:
  circle w0.4: c23.597,-26.421 r0.5
  lines w0.2: -25.248,-22.327 -25.248,-25.248 -22.327,-25.248 ; -25.248,22.352 -25.248,25.273 -22.327,25.273 ; 22.327,25.248 25.248,25.248 25.248,22.327 ; 22.352,-25.273 25.273,-25.273 25.273,-22.352
Top Designator:
  text ".Designator" at -22.1,26.699 h0.6
Top Assembly:
  rectangle: 23.03,-25 25,-23.065
  lines w0.2: -25,-25 -25,25 25,25 25,-25 -25,-25 ; -21,-20 ccw(c-20,-20) -20,-21 20,-21 ccw(c20,-20) 21,-20 21,20 ccw(c20,20) 20,21 -20,21 ccw(c-20,20) -21,20 -21,-20
Top Courtyard:
  lines w0.05: -0.5,0 0.5,0 ; 0,-0.5 0,0.5
  lines w0.2: -26.289,-26.289 26.162,-26.289 26.162,26.289 -26.289,26.289 -26.289,-26.289
3D body "oolite_v8.step": height 3.4, standoff 0.02, extent -25,-25 25,25

## POWER_SO-8 [mm]
pads (22):
  rrect20% 1.525x0.65 smd: 1(-2.712,1.905) 2(-2.712,0.635) 3(-2.712,-0.635) 4(-2.712,-1.905) 5(2.712,-1.905) 6(2.712,-0.635) 7(2.712,0.635) 8(2.712,1.905)
  rrect25% 2.6x3.5 smd: 9(0,0)
  round 0.6 hole 0.3: unused1(-0.8,1.3) unused2(0,1.3) unused3(0.8,1.3) unused4(-0.8,0) unused5(0,0) unused6(0.8,0) unused7(-0.8,-1.3) unused8(0,-1.3) unused9(0.8,-1.3) unused10(-0.5,-0.65) unused11(0.5,-0.65) unused12(-0.5,0.65) unused13(0.5,0.65)
Top Overlay:
  circle w0.2: c-1.75,2.625 r0.103
  lines w0.2: -1.625,-2.5 -1.625,1.825 -0.95,2.5 1.625,2.5 1.625,-2.5 -1.625,-2.5
Top Paste:
  region: -1.2,-1.65 1.2,-1.65 1.2,-0.15 -1.2,-0.15
  region: -1.2,0.15 1.2,0.15 1.2,1.65 -1.2,1.65
Top Designator:
  text ".Designator" at -3.149,3.075 h0.6
Top Assembly:
  rectangle: -1.875,1.292 -0.587,2.5
  lines w0.15: -1.875,-2.085 -2.925,-2.085 -2.925,-1.735 -1.875,-1.735 ; -1.875,-0.815 -2.925,-0.815 -2.925,-0.465 -1.875,-0.465 ; -1.875,0.455 -2.925,0.455 -2.925,0.805 -1.875,0.805 ; -1.875,1.725 -2.925,1.725 -2.925,2.075 -1.875,2.075 ; 1.875,-2.085 2.925,-2.085 2.925,-1.735 1.875,-1.735 ; 1.875,-0.815 2.925,-0.815 2.925,-0.465 1.875,-0.465 ; 1.875,0.455 2.925,0.455 2.925,0.805 1.875,0.805 ; 1.875,1.725 2.925,1.725 2.925,2.075 1.875,2.075 ; -1.875,-2.5 1.85,-2.5 1.85,2.5 -1.875,2.5 -1.875,-2.5
Top Courtyard:
  lines w0.05: -0.5,0 0.5,0 ; 0,-0.5 0,0.5 ; -3.705,-2.522 -1.952,-2.519 -1.952,-2.7 1.952,-2.7 1.952,-2.539 3.743,-2.541 3.743,2.532 1.952,2.529 1.952,2.7 -1.952,2.7 -1.952,2.505 -3.705,2.507 -3.705,-2.522
3D body "ST1S10PHR.STEP": height 1.75, standoff 0.05, extent -3,-2.45 3,2.45

## PQFN50P300X300X100-16N [mm]
pads (16):
  rrect20% 0.52x0.35 smd: 1(-1.225,1) 2(-1.225,0.5) 3(-1.225,0) 4(-1.225,-0.5) 5(-1.225,-1) 9(1.225,-1) 10(1.225,-0.5) 11(1.225,0) 12(1.225,0.5) 13(1.225,1)
  rrect20% 0.35x0.52 smd: 6(-0.5,-1.225) 7(0,-1.225) 8(0.5,-1.225) 14(0.5,1.225) 15(0,1.225) 16(-0.5,1.225)
Top Overlay:
  lines w0.2: -1.688,1.389 -1.688,1.685 ; -1.688,1.832 -1.025,1.832 ; -1.685,-1.388 -1.685,-1.688 -1.389,-1.688 ; 1.388,-1.685 1.688,-1.685 1.688,-1.389 ; 1.389,1.688 1.685,1.688 1.685,1.388 ; -1.688,1.685 -1.688,1.98 -1.025,1.98 -1.025,1.685 -1.688,1.685
Bottom Dimensions:
  rectangle: -1.58,1.149 -1.143,1.593
  rectangle: -1.644,1.335 -0.835,1.649
  lines w0.2: -1.644,-1.634 1.639,-1.634 1.639,1.649 -1.644,1.649 -1.644,-1.634
  text ".Designator" at -2.025,2 h1
Top Assembly:
  rectangle: -1.5,0.7 -0.7,1.5
  lines w0.127: -1.5,-1.5 -1.5,1.5 1.5,1.5 1.5,-1.5 -1.5,-1.5
Top Courtyard:
  lines w0.05: -1.644,-1.634 -1.644,1.649 1.639,1.649 1.639,-1.634 -1.644,-1.634
3D body "step_temp.STEP": height 1, standoff 0, extent -1.5,-1.5 1.5,1.5